# Altium integrated library AD7732BRUZ.IntLib: 1 symbol
Pins are listed as number, name and electrical type; pins without a type are passive.

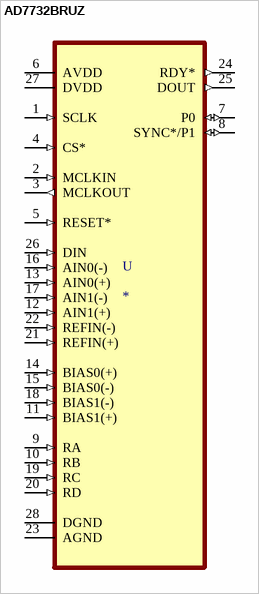
[diagram p0: symbol AD7732BRUZ]

## AD7732BRUZ
designator U
24 Bit Analog to Digital Converter 2 Input 1 Sigma-Delta 28-TSSOP; MF: Analog Devices; MP: AD7732BRUZ; SnapEDA_Link: https://www.snapeda.com/parts/AD7732BRUZ/Analog%20Devices%20Inc./view-part/12127/?ref=snap; Price: None; Value: *; Availability: Unavailable; Package: TSSOP -28 Analog Devices
footprint SOP65P640X120-28N
pins: 1 SCLK (in), 2 MCLKIN (in), 3 MCLKOUT (out), 4 CS* (in), 5 RESET* (in), 6 AVDD (power), 7 P0 (io), 8 SYNC*/P1 (io), 9 RA (in), 10 RB (in), 11 BIAS1(+) (in), 12 AIN1(+) (in), 13 AIN0(+) (in), 14 BIAS0(+) (in), 15 BIAS0(-) (in), 16 AIN0(-) (in), 17 AIN1(-) (in), 18 BIAS1(-) (in), 19 RC (in), 20 RD (in), 21 REFIN(+) (in), 22 REFIN(-) (in), 23 AGND, 24 RDY* (out), 25 DOUT (out), 26 DIN (in), 27 DVDD (power), 28 DGND